# Altium footprint library opto-honeywell-3000.PCBLIB: 10 footprints
Each footprint in its own frame and in the unit in brackets; x right, y up, seen from the top. Pads: shape width x height; smd on the part's side, far side on the other; paste and mask are expansions set on the pad; w line width, h text height; cw(c..) or ccw(c..) is an arc to the next point about the centre after c.
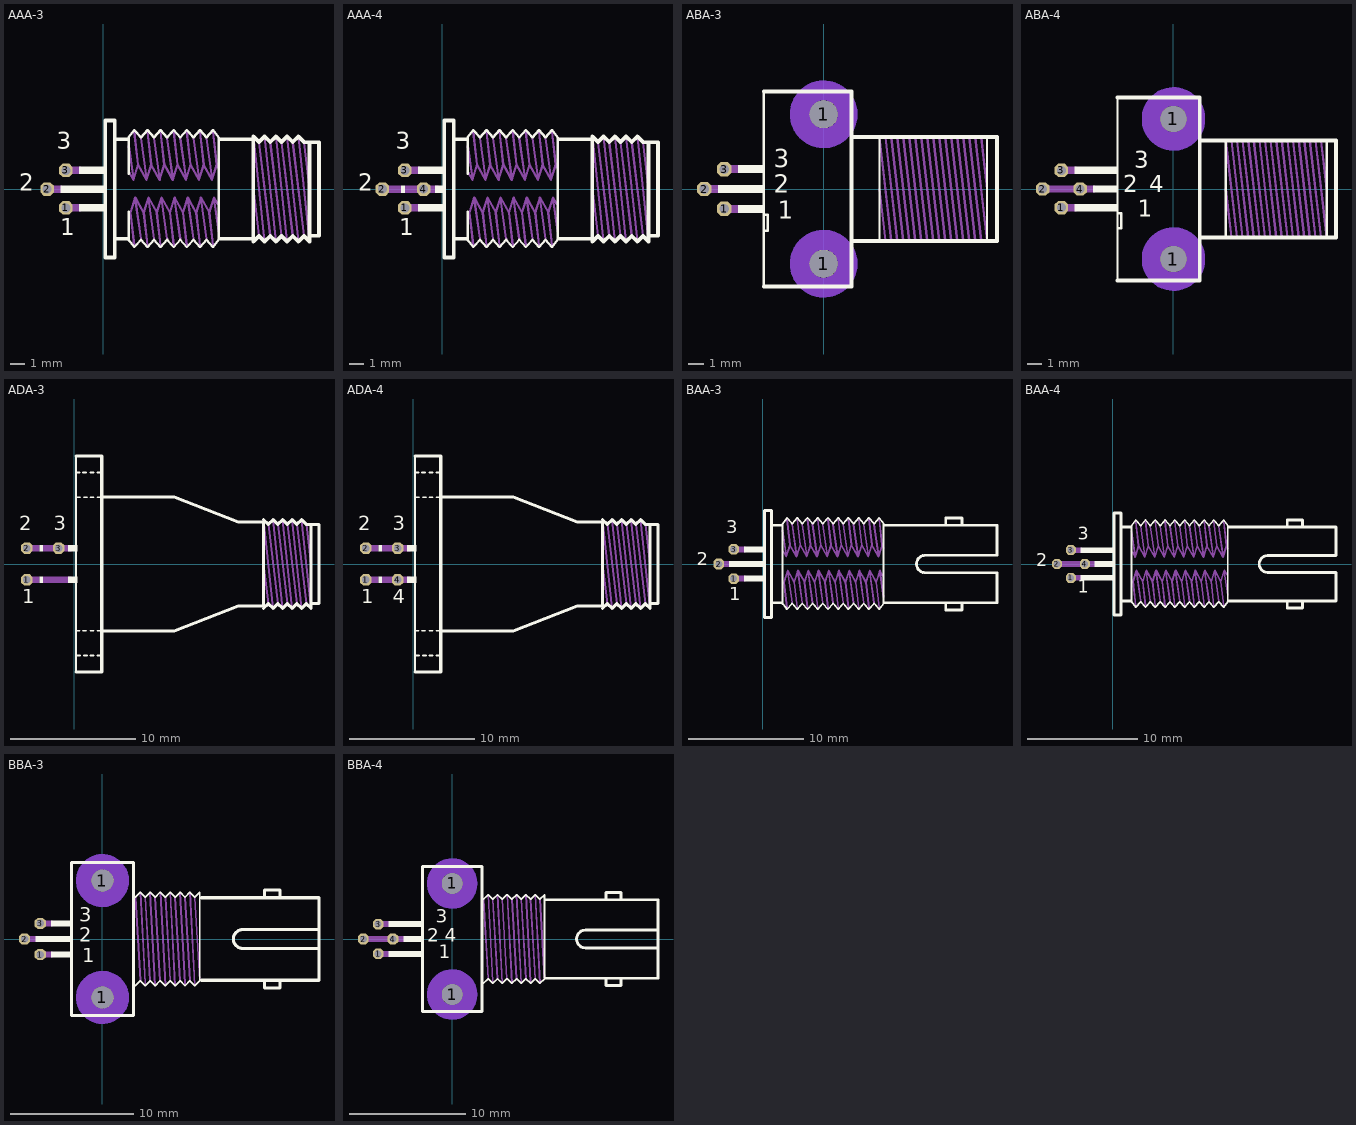
[diagram p0: the footprints below, top view; thin cyan lines are the x and y axes]

## AAA-3 [mil]
pads (3):
  oct 36x36 hole 24: 1(-100,-50) 2(-150,0) 3(-100,50)
Top Overlay:
  rectangle: -65,40 0,60
  rectangle: -115,-10 0,10
  rectangle: -65,-60 0,-40
  lines w6: 67.5,-137.5 67.5,-135 ; 67.5,-60 67.5,-135 ; 67.5,40 67.5,135 ; 67.5,137.5 82.5,157.5 100,137.5 117.5,157.5 135,137.5 152.5,157.5 170,137.5 187.5,157.5 205,137.5 222.5,157.5 240,137.5 257.5,157.5 275,137.5 292.5,157.5 307.5,137.5 307.5,-135 292.5,-155 275,-135 257.5,-155 240,-135 222.5,-155 205,-135 187.5,-155 170,-135 152.5,-155 135,-135 117.5,-155 100,-135 82.5,-155 67.5,-135
  lines w10: 35,-132.5 62.5,-132.5 ; 35,132.5 62.5,132.5 ; 312.5,-132.5 400,-132.5 ; 312.5,132.5 400,132.5 ; 400,-140 415,-125 430,-140 445,-125 460,-140 475,-125 490,-140 505,-125 520,-140 535,-125 550,-140 550,-125 ; 400,-135 400,-132.5 ; 400,135 400,132.5 ; 400,140 415,125 430,140 445,125 460,140 475,125 490,140 505,125 520,140 535,125 550,125 ; 550,-135 550,-125 ; 400,-132.5 400,132.5 ; 550,-125 550,125 ; 550,-125 575,-125 575,125 550,125 ; 5,-182.5 5,182.5 30,182.5 30,-182.5 5,-182.5
  text "1" at -115,-140 h77.5
  text "3" at -125,90 h77.5
  text "2" at -225,-20 h77.5
Mechanical 16:
  rectangle: -105,40 -60,60
  rectangle: -155,-10 -110,10
  rectangle: -105,-60 -60,-40
  lines w6: 67.5,115 80,30 ; 70,42.5 80,25 92.5,65 ; 82.5,-150 72.5,-62.5 85,-22.5 107.5,-62.5 ; 82.5,152.5 92.5,65 ; 85,-27.5 100,-132.5 ; 100,135 115,30 ; 117.5,-150 107.5,-62.5 ; 117.5,152.5 127.5,65 ; 120,-27.5 135,-132.5 ; 135,135 150,30 ; 152.5,-150 142.5,-62.5 ; 152.5,152.5 162.5,65 ; 155,-27.5 170,-132.5 ; 170,135 185,30 ; 187.5,-150 177.5,-62.5 ; 187.5,152.5 197.5,65 ; 190,-27.5 205,-132.5 ; 205,135 220,30 ; 222.5,-150 212.5,-62.5 ; 222.5,152.5 232.5,65 ; 225,-27.5 240,-132.5 ; 240,135 255,30 ; 257.5,-150 247.5,-62.5 ; 257.5,152.5 267.5,65 ; 260,-27.5 275,-132.5 ; 275,135 290,30 ; 292.5,-150 282.5,-62.5 ; 292.5,152.5 302.5,65 ; 295,-27.5 307.5,-112.5 ; 305,-40 295,-22.5 282.5,-62.5 ; 307.5,55 302.5,65 ; 400,0 415,-125 ; 400,140 430,-140 ; 415,125 445,-125 ; 430,140 460,-140 ; 445,125 475,-125 ; 460,140 490,-140 ; 475,125 505,-125 ; 490,140 520,-140 ; 505,125 535,-125 ; 520,140 550,-140 ; 535,125 550,0 ; 92.5,65 115,25 127.5,65 ; 107.5,-62.5 120,-22.5 142.5,-62.5 ; 127.5,65 150,25 162.5,65 ; 142.5,-62.5 155,-22.5 177.5,-62.5 ; 162.5,65 185,25 197.5,65 ; 177.5,-62.5 190,-22.5 212.5,-62.5 ; 197.5,65 220,25 232.5,65 ; 212.5,-62.5 225,-22.5 247.5,-62.5 ; 232.5,65 255,25 267.5,65 ; 247.5,-62.5 260,-22.5 282.5,-62.5 ; 267.5,65 290,25 302.5,65

## AAA-4 [mil]
pads (4):
  oct 36x36 hole 24: 1(-100,-50) 2(-160,0) 3(-100,50) 4(-50,0)
Top Overlay:
  rectangle: -65,40 0,60
  rectangle: -65,-60 0,-40
  rectangle: -20,-10 10,10
  rectangle: -110,-10 -100,10
  lines w6: 67.5,-137.5 67.5,-135 ; 67.5,-60 67.5,-135 ; 67.5,40 67.5,135 ; 67.5,137.5 82.5,157.5 100,137.5 117.5,157.5 135,137.5 152.5,157.5 170,137.5 187.5,157.5 205,137.5 222.5,157.5 240,137.5 257.5,157.5 275,137.5 292.5,157.5 307.5,137.5 307.5,-135 292.5,-155 275,-135 257.5,-155 240,-135 222.5,-155 205,-135 187.5,-155 170,-135 152.5,-155 135,-135 117.5,-155 100,-135 82.5,-155 67.5,-135
  lines w10: 35,-132.5 62.5,-132.5 ; 35,132.5 62.5,132.5 ; 312.5,-132.5 400,-132.5 ; 312.5,132.5 400,132.5 ; 400,-140 415,-125 430,-140 445,-125 460,-140 475,-125 490,-140 505,-125 520,-140 535,-125 550,-140 550,-125 ; 400,-135 400,-132.5 ; 400,135 400,132.5 ; 400,140 415,125 430,140 445,125 460,140 475,125 490,140 505,125 520,140 535,125 550,125 ; 550,-135 550,-125 ; 400,-132.5 400,132.5 ; 550,-125 550,125 ; 550,-125 575,-125 575,125 550,125 ; 5,-182.5 5,182.5 30,182.5 30,-182.5 5,-182.5
  text "1" at -115,-140 h77.5
  text "3" at -125,90 h77.5
  text "2" at -225,-20 h77.5
Mechanical 16:
  rectangle: -105,40 -60,60
  rectangle: -155,-10 -110,10
  rectangle: -105,-60 -60,-40
  rectangle: -100,-10 -55,10
  rectangle: -55,-10 -10,10
  lines w6: 67.5,115 80,30 ; 70,42.5 80,25 92.5,65 ; 82.5,-150 72.5,-62.5 85,-22.5 107.5,-62.5 ; 82.5,152.5 92.5,65 ; 85,-27.5 100,-132.5 ; 100,135 115,30 ; 117.5,-150 107.5,-62.5 ; 117.5,152.5 127.5,65 ; 120,-27.5 135,-132.5 ; 135,135 150,30 ; 152.5,-150 142.5,-62.5 ; 152.5,152.5 162.5,65 ; 155,-27.5 170,-132.5 ; 170,135 185,30 ; 187.5,-150 177.5,-62.5 ; 187.5,152.5 197.5,65 ; 190,-27.5 205,-132.5 ; 205,135 220,30 ; 222.5,-150 212.5,-62.5 ; 222.5,152.5 232.5,65 ; 225,-27.5 240,-132.5 ; 240,135 255,30 ; 257.5,-150 247.5,-62.5 ; 257.5,152.5 267.5,65 ; 260,-27.5 275,-132.5 ; 275,135 290,30 ; 292.5,-150 282.5,-62.5 ; 292.5,152.5 302.5,65 ; 295,-27.5 307.5,-112.5 ; 305,-40 295,-22.5 282.5,-62.5 ; 307.5,55 302.5,65 ; 400,0 415,-125 ; 400,140 430,-140 ; 415,125 445,-125 ; 430,140 460,-140 ; 445,125 475,-125 ; 460,140 490,-140 ; 475,125 505,-125 ; 490,140 520,-140 ; 505,125 535,-125 ; 520,140 550,-140 ; 535,125 550,0 ; 92.5,65 115,25 127.5,65 ; 107.5,-62.5 120,-22.5 142.5,-62.5 ; 127.5,65 150,25 162.5,65 ; 142.5,-62.5 155,-22.5 177.5,-62.5 ; 162.5,65 185,25 197.5,65 ; 177.5,-62.5 190,-22.5 212.5,-62.5 ; 197.5,65 220,25 232.5,65 ; 212.5,-62.5 225,-22.5 247.5,-62.5 ; 232.5,65 255,25 267.5,65 ; 247.5,-62.5 260,-22.5 282.5,-62.5 ; 267.5,65 290,25 302.5,65

## ABA-3 [mil]
pads (5):
  oct 36x36 hole 24: 1(-250,-50) 2(-300,0) 3(-250,50)
  round 70 hole 70: 1(0,-187.5) 1(0,187.5)
Bottom Layer keep-out:
  circle w50: c0,187.5 r60
  circle w50: c0,-187.5 r60
Top Overlay:
  rectangle: -215,40 -150,60
  rectangle: -265,-10 -150,10
  rectangle: -215,-60 -150,-40
  lines w6: -150,-245 -150,245 ; -145,-105 -140,-105 -140,-65 -145,-65 ; 140,-125 140,130 ; 410,-125 410,125
  lines w10: -150,-245 70,-245 70,245 -150,245 ; 70,-130 435,-130 435,130 70,130
  text "1" at -115,-90 h77.5
  text "2" at -125,-25 h77.5
  text "3" at -125,40 h77.5
Mechanical 16:
  rectangle: -255,40 -210,60
  rectangle: -305,-10 -260,10
  rectangle: -255,-60 -210,-40
  lines w6: 140,0 155,-130 ; 140,130 170,-130 ; 155,130 185,-130 ; 170,130 200,-130 ; 185,130 215,-130 ; 200,130 230,-130 ; 215,130 245,-130 ; 230,130 260,-130 ; 245,130 275,-130 ; 260,130 290,-130 ; 275,130 305,-130 ; 290,130 320,-130 ; 305,130 335,-130 ; 320,130 350,-130 ; 335,130 365,-130 ; 350,130 380,-130 ; 365,130 395,-130 ; 380,130 410,-130 ; 395,130 410,0
Via Holes:
  circle w50: c0,187.5 r60
  circle w50: c0,-187.5 r60

## ABA-4 [mil]
pads (6):
  oct 36x36 hole 24: 1(-300,-50) 2(-350,0) 3(-300,50) 4(-250,0)
  round 70 hole 70: 1(0,-187.5) 1(0,187.5)
Bottom Layer keep-out:
  circle w50: c0,187.5 r60
  circle w50: c0,-187.5 r60
Top Overlay:
  rectangle: -215,-10 -150,10
  rectangle: -265,-60 -150,-40
  rectangle: -265,40 -150,60
  lines w6: -150,-245 -150,245 ; -145,-105 -140,-105 -140,-65 -145,-65 ; 140,-125 140,130 ; 410,-125 410,125
  lines w10: -150,-245 70,-245 70,245 -150,245 ; 70,-130 435,-130 435,130 70,130
  text "1" at -95,-90 h77.5
  text "2" at -135,-25 h77.5
  text "3" at -105,40 h77.5
  text "4" at -65,-25 h77.5
Mechanical 16:
  rectangle: -305,40 -260,60
  rectangle: -255,-10 -210,10
  rectangle: -305,-60 -260,-40
  rectangle: -355,-10 -250,10
  lines w6: 140,0 155,-130 ; 140,130 170,-130 ; 155,130 185,-130 ; 170,130 200,-130 ; 185,130 215,-130 ; 200,130 230,-130 ; 215,130 245,-130 ; 230,130 260,-130 ; 245,130 275,-130 ; 260,130 290,-130 ; 275,130 305,-130 ; 290,130 320,-130 ; 305,130 335,-130 ; 320,130 350,-130 ; 335,130 365,-130 ; 350,130 380,-130 ; 365,130 395,-130 ; 380,130 410,-130 ; 395,130 410,0
Via Holes:
  circle w50: c0,187.5 r60
  circle w50: c0,-187.5 r60

## ADA-3 [mil]
pads (3):
  oct 36x36 hole 24: 1(-150,-50) 2(-150,50) 3(-50,50)
Top Overlay:
  rectangle: -20,40 10,60
  rectangle: -110,40 -100,60
  rectangle: -110,-60 -100,-40
  rectangle: -20,-60 10,-40
  lines w6: 5,-340.37 5,340.37 ; 5.12,-289.37 17.72,-289.37 ; 5.12,-210.63 15.75,-210.63 ; 5.12,210.63 17.72,210.63 ; 5.12,289.37 15.75,289.37 ; 27.56,-210.63 37.4,-210.63 ; 27.56,289.37 37.4,289.37 ; 29.53,-289.37 39.37,-289.37 ; 29.53,210.63 39.37,210.63 ; 51.18,-289.37 61.02,-289.37 ; 51.18,-210.63 61.02,-210.63 ; 51.18,210.63 61.02,210.63 ; 51.18,289.37 61.02,289.37 ; 72.83,-289.37 83.07,-289.37 ; 72.83,-210.63 83.07,-210.63 ; 72.83,210.63 83.07,210.63 ; 72.83,289.37 83.07,289.37
  lines w10: 5,-340.37 85.91,-340.37 85.91,340.37 5,340.37 ; 87.76,211.24 314.96,211.24 516.81,132.8 ; 91.69,-211.24 314.96,-211.24 516.81,-132.8 ; 516.83,-132.5 596.85,-132.5 ; 516.83,132.5 596.85,132.5 ; 596.85,-140 611.85,-125 626.85,-140 641.85,-125 656.85,-140 671.85,-125 686.85,-140 701.85,-125 716.85,-140 731.85,-125 746.85,-140 746.85,-125 ; 596.85,-135 596.85,-132.5 ; 596.85,135 596.85,132.5 ; 596.85,140 611.85,125 626.85,140 641.85,125 656.85,140 671.85,125 686.85,140 701.85,125 716.85,140 731.85,125 746.85,125 ; 746.85,-135 746.85,-125 ; 596.85,-132.5 596.85,132.5 ; 746.85,-125 746.85,125 ; 746.85,-125 771.85,-125 771.85,125 746.85,125
  text "1" at -165,-140 h77.5
  text "3" at -65,90 h77.5
  text "2" at -175,90 h77.5
Mechanical 16:
  rectangle: -155,40 -110,60
  rectangle: -100,40 -55,60
  rectangle: -55,40 -10,60
  rectangle: -155,-60 -110,-40
  rectangle: -100,-60 -55,-40
  rectangle: -55,-60 -10,-40
  lines w6: 596.85,0 611.85,-125 ; 596.85,140 626.85,-140 ; 611.85,125 641.85,-125 ; 626.85,140 656.85,-140 ; 641.85,125 671.85,-125 ; 656.85,140 686.85,-140 ; 671.85,125 701.85,-125 ; 686.85,140 716.85,-140 ; 701.85,125 731.85,-125 ; 716.85,140 746.85,-140 ; 731.85,125 746.85,0

## ADA-4 [mil]
pads (4):
  oct 36x36 hole 24: 1(-150,-50) 2(-150,50) 3(-50,50) 4(-50,-50)
Top Overlay:
  rectangle: -20,40 10,60
  rectangle: -110,40 -100,60
  rectangle: -110,-60 -100,-40
  rectangle: -20,-60 10,-40
  lines w6: 5,-340.37 5,340.37 ; 5.12,-289.37 17.72,-289.37 ; 5.12,-210.63 15.75,-210.63 ; 5.12,210.63 17.72,210.63 ; 5.12,289.37 15.75,289.37 ; 27.56,-210.63 37.4,-210.63 ; 27.56,289.37 37.4,289.37 ; 29.53,-289.37 39.37,-289.37 ; 29.53,210.63 39.37,210.63 ; 51.18,-289.37 61.02,-289.37 ; 51.18,-210.63 61.02,-210.63 ; 51.18,210.63 61.02,210.63 ; 51.18,289.37 61.02,289.37 ; 72.83,-289.37 83.07,-289.37 ; 72.83,-210.63 83.07,-210.63 ; 72.83,210.63 83.07,210.63 ; 72.83,289.37 83.07,289.37
  lines w10: 5,-340.37 85.91,-340.37 85.91,340.37 5,340.37 ; 87.76,211.24 314.96,211.24 516.81,132.8 ; 91.69,-211.24 314.96,-211.24 516.81,-132.8 ; 516.83,-132.5 596.85,-132.5 ; 516.83,132.5 596.85,132.5 ; 596.85,-140 611.85,-125 626.85,-140 641.85,-125 656.85,-140 671.85,-125 686.85,-140 701.85,-125 716.85,-140 731.85,-125 746.85,-140 746.85,-125 ; 596.85,-135 596.85,-132.5 ; 596.85,135 596.85,132.5 ; 596.85,140 611.85,125 626.85,140 641.85,125 656.85,140 671.85,125 686.85,140 701.85,125 716.85,140 731.85,125 746.85,125 ; 746.85,-135 746.85,-125 ; 596.85,-132.5 596.85,132.5 ; 746.85,-125 746.85,125 ; 746.85,-125 771.85,-125 771.85,125 746.85,125
  text "1" at -165,-140 h77.5
  text "3" at -65,90 h77.5
  text "2" at -175,90 h77.5
  text "4" at -65,-140 h77.5
Mechanical 16:
  rectangle: -155,40 -110,60
  rectangle: -100,40 -55,60
  rectangle: -55,40 -10,60
  rectangle: -155,-60 -110,-40
  rectangle: -100,-60 -55,-40
  rectangle: -55,-60 -10,-40
  lines w6: 596.85,0 611.85,-125 ; 596.85,140 626.85,-140 ; 611.85,125 641.85,-125 ; 626.85,140 656.85,-140 ; 641.85,125 671.85,-125 ; 656.85,140 686.85,-140 ; 671.85,125 701.85,-125 ; 686.85,140 716.85,-140 ; 701.85,125 731.85,-125 ; 716.85,140 746.85,-140 ; 731.85,125 746.85,0

## BAA-3 [mil]
pads (3):
  oct 36x36 hole 24: 1(-100,-50) 2(-150,0) 3(-100,50)
Top Overlay:
  rectangle: -65,40 0,60
  rectangle: -115,-10 0,10
  rectangle: -65,-60 0,-40
  lines w6: 67.5,-137.5 67.5,-135 ; 67.5,135 67.5,-135 ; 67.5,137.5 82.5,157.5 100,137.5 117.5,157.5 135,137.5 152.5,157.5 170,137.5 187.5,157.5 205,137.5 222.5,157.5 240,137.5 257.5,157.5 275,137.5 292.5,157.5 310,137.5 327.5,157.5 345,137.5 362.5,157.5 380,137.5 397.5,157.5 412.5,137.5 412.5,-135 397.5,-155 380,-135 362.5,-155 345,-135 327.5,-155 310,-135 292.5,-155 275,-135 257.5,-155 240,-135 222.5,-155 205,-135 187.5,-155 170,-135 152.5,-155 135,-135 117.5,-155 100,-135 82.5,-155 67.5,-135
  lines w10: 35,-132.5 62.5,-132.5 ; 35,132.5 62.5,132.5 ; 417.5,-132.5 800,-132.5 800,-30 555,-30 cw(c555,0) 555,30 800,30 800,132.5 417.5,132.5 ; 625,-140 625,-157.5 680,-157.5 680,-137.5 ; 625,135 625,157.5 680,157.5 680,137.5 ; 5,-182.5 5,182.5 30,182.5 30,-182.5 5,-182.5
  text "1" at -115,-140 h77.5
  text "3" at -125,90 h77.5
  text "2" at -225,-20 h77.5
Mechanical 16:
  rectangle: -105,40 -60,60
  rectangle: -155,-10 -110,10
  rectangle: -105,-60 -60,-40
  lines w6: 67.5,115 80,30 ; 70,42.5 80,25 92.5,65 ; 82.5,-150 72.5,-62.5 85,-22.5 107.5,-62.5 ; 82.5,152.5 92.5,65 ; 85,-27.5 100,-132.5 ; 100,135 115,30 ; 117.5,-150 107.5,-62.5 ; 117.5,152.5 127.5,65 ; 120,-27.5 135,-132.5 ; 135,135 150,30 ; 152.5,-150 142.5,-62.5 ; 152.5,152.5 162.5,65 ; 155,-27.5 170,-132.5 ; 170,135 185,30 ; 187.5,-150 177.5,-62.5 ; 187.5,152.5 197.5,65 ; 190,-27.5 205,-132.5 ; 205,135 220,30 ; 222.5,-150 212.5,-62.5 ; 222.5,152.5 232.5,65 ; 225,-27.5 240,-132.5 ; 240,135 255,30 ; 257.5,-150 247.5,-62.5 ; 257.5,152.5 267.5,65 ; 260,-27.5 275,-132.5 ; 275,135 290,30 ; 292.5,-150 282.5,-62.5 ; 292.5,152.5 302.5,65 ; 295,-27.5 310,-132.5 ; 310,135 325,30 ; 327.5,-150 317.5,-62.5 ; 327.5,152.5 337.5,65 ; 330,-27.5 345,-132.5 ; 345,135 360,30 ; 362.5,-150 352.5,-62.5 ; 362.5,152.5 372.5,65 ; 365,-27.5 380,-132.5 ; 380,135 395,30 ; 397.5,-150 387.5,-62.5 ; 397.5,152.5 407.5,65 ; 400,-27.5 412.5,-112.5 ; 410,-40 400,-22.5 387.5,-62.5 ; 412.5,55 407.5,65 ; 92.5,65 115,25 127.5,65 ; 107.5,-62.5 120,-22.5 142.5,-62.5 ; 127.5,65 150,25 162.5,65 ; 142.5,-62.5 155,-22.5 177.5,-62.5 ; 162.5,65 185,25 197.5,65 ; 177.5,-62.5 190,-22.5 212.5,-62.5 ; 197.5,65 220,25 232.5,65 ; 212.5,-62.5 225,-22.5 247.5,-62.5 ; 232.5,65 255,25 267.5,65 ; 247.5,-62.5 260,-22.5 282.5,-62.5 ; 267.5,65 290,25 302.5,65 ; 282.5,-62.5 295,-22.5 317.5,-62.5 ; 302.5,65 325,25 337.5,65 ; 317.5,-62.5 330,-22.5 352.5,-62.5 ; 337.5,65 360,25 372.5,65 ; 352.5,-62.5 365,-22.5 387.5,-62.5 ; 372.5,65 395,25 407.5,65

## BAA-4 [mil]
pads (4):
  oct 36x36 hole 24: 1(-150,-50) 2(-200,0) 3(-150,50) 4(-100,0)
Top Overlay:
  rectangle: -65,-10 0,10
  rectangle: -115,-60 0,-40
  rectangle: -115,40 0,60
  lines w6: 67.5,-137.5 67.5,-135 ; 67.5,135 67.5,-135 ; 67.5,137.5 82.5,157.5 100,137.5 117.5,157.5 135,137.5 152.5,157.5 170,137.5 187.5,157.5 205,137.5 222.5,157.5 240,137.5 257.5,157.5 275,137.5 292.5,157.5 310,137.5 327.5,157.5 345,137.5 362.5,157.5 380,137.5 397.5,157.5 412.5,137.5 412.5,-135 397.5,-155 380,-135 362.5,-155 345,-135 327.5,-155 310,-135 292.5,-155 275,-135 257.5,-155 240,-135 222.5,-155 205,-135 187.5,-155 170,-135 152.5,-155 135,-135 117.5,-155 100,-135 82.5,-155 67.5,-135
  lines w10: 35,-132.5 62.5,-132.5 ; 35,132.5 62.5,132.5 ; 417.5,-132.5 800,-132.5 800,-30 555,-30 cw(c555,0) 555,30 800,30 800,132.5 417.5,132.5 ; 625,-140 625,-157.5 680,-157.5 680,-137.5 ; 625,135 625,157.5 680,157.5 680,137.5 ; 5,-182.5 5,182.5 30,182.5 30,-182.5 5,-182.5
  text "1" at -125,-120 h77.5
  text "3" at -125,70 h77.5
  text "2" at -275,-25 h77.5
Mechanical 16:
  rectangle: -205,-10 -100,10
  rectangle: -155,40 -110,60
  rectangle: -105,-10 -60,10
  rectangle: -155,-60 -110,-40
  lines w6: 67.5,115 80,30 ; 70,42.5 80,25 92.5,65 ; 82.5,-150 72.5,-62.5 85,-22.5 107.5,-62.5 ; 82.5,152.5 92.5,65 ; 85,-27.5 100,-132.5 ; 100,135 115,30 ; 117.5,-150 107.5,-62.5 ; 117.5,152.5 127.5,65 ; 120,-27.5 135,-132.5 ; 135,135 150,30 ; 152.5,-150 142.5,-62.5 ; 152.5,152.5 162.5,65 ; 155,-27.5 170,-132.5 ; 170,135 185,30 ; 187.5,-150 177.5,-62.5 ; 187.5,152.5 197.5,65 ; 190,-27.5 205,-132.5 ; 205,135 220,30 ; 222.5,-150 212.5,-62.5 ; 222.5,152.5 232.5,65 ; 225,-27.5 240,-132.5 ; 240,135 255,30 ; 257.5,-150 247.5,-62.5 ; 257.5,152.5 267.5,65 ; 260,-27.5 275,-132.5 ; 275,135 290,30 ; 292.5,-150 282.5,-62.5 ; 292.5,152.5 302.5,65 ; 295,-27.5 310,-132.5 ; 310,135 325,30 ; 327.5,-150 317.5,-62.5 ; 327.5,152.5 337.5,65 ; 330,-27.5 345,-132.5 ; 345,135 360,30 ; 362.5,-150 352.5,-62.5 ; 362.5,152.5 372.5,65 ; 365,-27.5 380,-132.5 ; 380,135 395,30 ; 397.5,-150 387.5,-62.5 ; 397.5,152.5 407.5,65 ; 400,-27.5 412.5,-112.5 ; 410,-40 400,-22.5 387.5,-62.5 ; 412.5,55 407.5,65 ; 92.5,65 115,25 127.5,65 ; 107.5,-62.5 120,-22.5 142.5,-62.5 ; 127.5,65 150,25 162.5,65 ; 142.5,-62.5 155,-22.5 177.5,-62.5 ; 162.5,65 185,25 197.5,65 ; 177.5,-62.5 190,-22.5 212.5,-62.5 ; 197.5,65 220,25 232.5,65 ; 212.5,-62.5 225,-22.5 247.5,-62.5 ; 232.5,65 255,25 267.5,65 ; 247.5,-62.5 260,-22.5 282.5,-62.5 ; 267.5,65 290,25 302.5,65 ; 282.5,-62.5 295,-22.5 317.5,-62.5 ; 302.5,65 325,25 337.5,65 ; 317.5,-62.5 330,-22.5 352.5,-62.5 ; 337.5,65 360,25 372.5,65 ; 352.5,-62.5 365,-22.5 387.5,-62.5 ; 372.5,65 395,25 407.5,65

## BBA-3 [mil]
pads (5):
  oct 36x36 hole 24: 1(-200,-50) 2(-250,0) 3(-200,50)
  round 70 hole 70: 1(0,-187.5) 1(0,187.5)
Bottom Layer keep-out:
  circle w50: c0,187.5 r60
  circle w50: c0,-187.5 r60
Top Overlay:
  rectangle: -165,40 -100,60
  rectangle: -215,-10 -100,10
  rectangle: -165,-60 -100,-40
  lines w6: 105.83,-149.61 121.57,-133.86 137.32,-149.61 153.07,-133.86 168.82,-149.61 184.57,-133.86 ; 105.83,133.86 121.57,149.61 137.32,133.86 153.07,149.61 168.82,133.86 184.57,149.61 ; 186.08,-133.86 201.83,-149.61 217.58,-133.86 233.33,-149.61 249.07,-133.86 264.82,-149.61 280.57,-133.86 296.32,-149.61 312.07,-133.86 ; 186.08,149.61 201.83,133.86 217.58,149.61 233.33,133.86 249.07,149.61 264.82,133.86 280.57,149.61 296.32,133.86 312.07,149.61 312.07,-131.14
  lines w10: 317.5,-132.5 695,-132.5 695,-30 ; 317.5,132.5 695,132.5 695,30 ; 520,-135 520,-157.5 570,-157.5 570,-135 ; 520,135 520,157.5 570,157.5 570,135 ; 695,-30 695,30 ; 695,-30 450,-30 cw(c450,0) 450,30 695,30 ; -100,-245 -100,245 100,245 100,-245 -100,-245
  text "1" at -65,-90 h77.5
  text "3" at -75,40 h77.5
  text "2" at -75,-25 h77.5
Mechanical 16:
  rectangle: -205,40 -160,60
  rectangle: -255,-10 -210,10
  rectangle: -205,-60 -160,-40
  lines w6: 105.83,133.86 121.57,-133.86 ; 121.57,149.61 137.32,-144.23 ; 137.32,133.86 153.07,-133.86 ; 153.07,149.61 168.82,-149.61 ; 168.82,133.86 184.57,-133.86 ; 186.08,149.61 201.83,-149.61 ; 201.83,133.86 217.58,-133.86 ; 217.58,149.61 233.33,-149.61 ; 233.33,133.86 249.07,-133.86 ; 249.07,149.61 264.82,-144.23 ; 264.82,133.86 280.57,-133.86 ; 280.57,149.61 296.32,-149.61 ; 296.32,133.86 312.07,-133.86
Via Holes:
  circle w50: c0,187.5 r60
  circle w50: c0,-187.5 r60

## BBA-4 [mil]
pads (6):
  oct 36x36 hole 24: 1(-250,-50) 2(-300,0) 3(-250,50) 4(-200,0)
  round 70 hole 70: 1(0,-187.5) 1(0,187.5)
Bottom Layer keep-out:
  circle w50: c0,187.5 r60
  circle w50: c0,-187.5 r60
Top Overlay:
  rectangle: -165,-10 -100,10
  rectangle: -215,-60 -100,-40
  rectangle: -215,40 -100,60
  lines w6: 105.83,-149.61 121.57,-133.86 137.32,-149.61 153.07,-133.86 168.82,-149.61 184.57,-133.86 ; 105.83,133.86 121.57,149.61 137.32,133.86 153.07,149.61 168.82,133.86 184.57,149.61 ; 186.08,-133.86 201.83,-149.61 217.58,-133.86 233.33,-149.61 249.07,-133.86 264.82,-149.61 280.57,-133.86 296.32,-149.61 312.07,-133.86 ; 186.08,149.61 201.83,133.86 217.58,149.61 233.33,133.86 249.07,149.61 264.82,133.86 280.57,149.61 296.32,133.86 312.07,149.61 312.07,-131.14
  lines w10: 317.5,-132.5 695,-132.5 695,-30 ; 317.5,132.5 695,132.5 695,30 ; 520,-135 520,-157.5 570,-157.5 570,-135 ; 520,135 520,157.5 570,157.5 570,135 ; 695,-30 695,30 ; 695,-30 450,-30 cw(c450,0) 450,30 695,30 ; -100,-245 -100,245 100,245 100,-245 -100,-245
  text "1" at -45,-80 h77.5
  text "2" at -85,-25 h77.5
  text "3" at -55,40 h77.5
  text "4" at -25,-25 h77.5
Mechanical 16:
  rectangle: -305,-10 -200,10
  rectangle: -255,40 -210,60
  rectangle: -205,-10 -160,10
  rectangle: -255,-60 -210,-40
  lines w6: 105.83,133.86 121.57,-133.86 ; 121.57,149.61 137.32,-144.23 ; 137.32,133.86 153.07,-133.86 ; 153.07,149.61 168.82,-149.61 ; 168.82,133.86 184.57,-133.86 ; 186.08,149.61 201.83,-149.61 ; 201.83,133.86 217.58,-133.86 ; 217.58,149.61 233.33,-149.61 ; 233.33,133.86 249.07,-133.86 ; 249.07,149.61 264.82,-144.23 ; 264.82,133.86 280.57,-133.86 ; 280.57,149.61 296.32,-149.61 ; 296.32,133.86 312.07,-133.86
Via Holes:
  circle w50: c0,187.5 r60
  circle w50: c0,-187.5 r60